# Altium footprint library SamacSys.PcbLib: 27 footprints (part 1 of 2)
Each footprint in its own frame and in the unit in brackets; x right, y up, seen from the top. Pads: shape width x height; smd on the part's side, far side on the other; paste and mask are expansions set on the pad; w line width, h text height; cw(c..) or ccw(c..) is an arc to the next point about the centre after c.
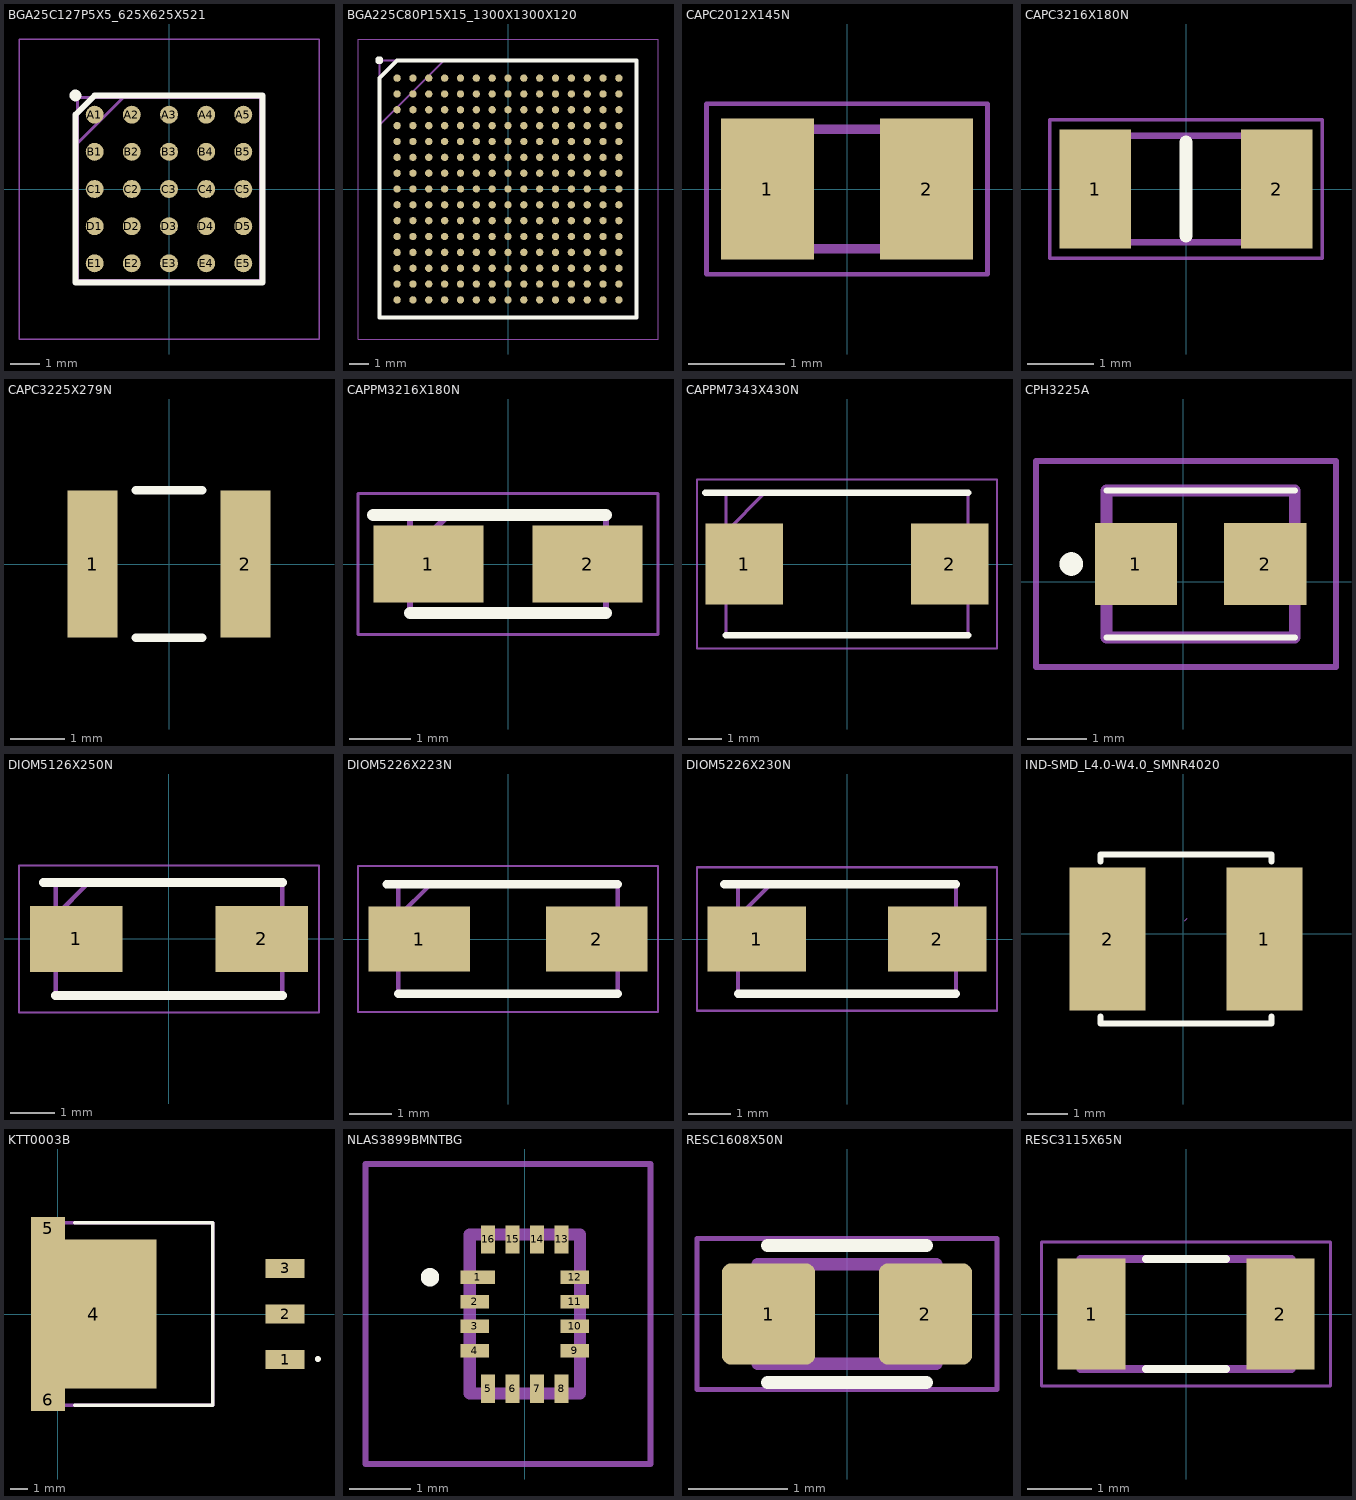
[diagram p0: the footprints below, top view; thin cyan lines are the x and y axes]

## BGA25C127P5X5_625X625X521 [mm]
pads (25):
  round 0.612 smd: A1(-2.54,2.54) A2(-1.27,2.54) A3(0,2.54) A4(1.27,2.54) A5(2.54,2.54) B1(-2.54,1.27) B2(-1.27,1.27) B3(0,1.27) B4(1.27,1.27) B5(2.54,1.27) C1(-2.54,0) C2(-1.27,0) C3(0,0) C4(1.27,0) C5(2.54,0) D1(-2.54,-1.27) D2(-1.27,-1.27) D3(0,-1.27) D4(1.27,-1.27) D5(2.54,-1.27) E1(-2.54,-2.54) E2(-1.27,-2.54) E3(0,-2.54) E4(1.27,-2.54) E5(2.54,-2.54)
Top Overlay:
  circle w0.2: c-3.196,3.196 r0.1
  lines w0.2: -3.196,-3.196 -3.196,2.54 -2.54,3.196 3.196,3.196 3.196,-3.196 -3.196,-3.196
Mechanical 13:
  lines w0.1: -3.125,1.562 -1.563,3.124 ; -3.125,-3.125 -3.125,3.125 3.125,3.125 3.125,-3.125 -3.125,-3.125
Mechanical 15:
  lines w0.05: -5.125,-5.125 -5.125,5.125 5.125,5.125 5.125,-5.125 -5.125,-5.125
3D body "LTM4624EY#PBF.stp": height 5.21, standoff 0, extent -3.125,-3.125 3.125,3.125

## BGA225C80P15X15_1300X1300X120 [mm]
pads (225):
  round 0.37 smd: A1(-5.6,5.6) A2(-4.8,5.6) A3(-4,5.6) A4(-3.2,5.6) A5(-2.4,5.6) A6(-1.6,5.6) A7(-0.8,5.6) A8(0,5.6) A9(0.8,5.6) A10(1.6,5.6) A11(2.4,5.6) A12(3.2,5.6) A13(4,5.6) A14(4.8,5.6) A15(5.6,5.6) B1(-5.6,4.8) B2(-4.8,4.8) B3(-4,4.8) B4(-3.2,4.8) B5(-2.4,4.8) B6(-1.6,4.8) B7(-0.8,4.8) B8(0,4.8) B9(0.8,4.8) B10(1.6,4.8) B11(2.4,4.8) B12(3.2,4.8) B13(4,4.8) B14(4.8,4.8) B15(5.6,4.8) C1(-5.6,4) C2(-4.8,4) C3(-4,4) C4(-3.2,4) C5(-2.4,4) C6(-1.6,4) C7(-0.8,4) C8(0,4) C9(0.8,4) C10(1.6,4) C11(2.4,4) C12(3.2,4) C13(4,4) C14(4.8,4) C15(5.6,4) D1(-5.6,3.2) D2(-4.8,3.2) D3(-4,3.2) D4(-3.2,3.2) D5(-2.4,3.2) D6(-1.6,3.2) D7(-0.8,3.2) D8(0,3.2) D9(0.8,3.2) D10(1.6,3.2) D11(2.4,3.2) D12(3.2,3.2) D13(4,3.2) D14(4.8,3.2) D15(5.6,3.2) E1(-5.6,2.4) E2(-4.8,2.4) E3(-4,2.4) E4(-3.2,2.4) E5(-2.4,2.4) E6(-1.6,2.4) E7(-0.8,2.4) E8(0,2.4) E9(0.8,2.4) E10(1.6,2.4) E11(2.4,2.4) E12(3.2,2.4) E13(4,2.4) E14(4.8,2.4) E15(5.6,2.4) F1(-5.6,1.6) F2(-4.8,1.6) F3(-4,1.6) F4(-3.2,1.6) F5(-2.4,1.6) F6(-1.6,1.6) F7(-0.8,1.6) F8(0,1.6) F9(0.8,1.6) F10(1.6,1.6) F11(2.4,1.6) F12(3.2,1.6) F13(4,1.6) F14(4.8,1.6) F15(5.6,1.6) G1(-5.6,0.8) G2(-4.8,0.8) G3(-4,0.8) G4(-3.2,0.8) G5(-2.4,0.8) G6(-1.6,0.8) G7(-0.8,0.8) G8(0,0.8) G9(0.8,0.8) G10(1.6,0.8) G11(2.4,0.8) G12(3.2,0.8) G13(4,0.8) G14(4.8,0.8) G15(5.6,0.8) H1(-5.6,0) H2(-4.8,0) H3(-4,0) H4(-3.2,0) H5(-2.4,0) H6(-1.6,0) H7(-0.8,0) H8(0,0) H9(0.8,0) H10(1.6,0) H11(2.4,0) H12(3.2,0) H13(4,0) H14(4.8,0) H15(5.6,0) J1(-5.6,-0.8) J2(-4.8,-0.8) J3(-4,-0.8) J4(-3.2,-0.8) J5(-2.4,-0.8) J6(-1.6,-0.8) J7(-0.8,-0.8) J8(0,-0.8) J9(0.8,-0.8) J10(1.6,-0.8) J11(2.4,-0.8) J12(3.2,-0.8) J13(4,-0.8) J14(4.8,-0.8) J15(5.6,-0.8) K1(-5.6,-1.6) K2(-4.8,-1.6) K3(-4,-1.6) K4(-3.2,-1.6) K5(-2.4,-1.6) K6(-1.6,-1.6) K7(-0.8,-1.6) K8(0,-1.6) K9(0.8,-1.6) K10(1.6,-1.6) K11(2.4,-1.6) K12(3.2,-1.6) K13(4,-1.6) K14(4.8,-1.6) K15(5.6,-1.6) L1(-5.6,-2.4) L2(-4.8,-2.4) L3(-4,-2.4) L4(-3.2,-2.4) L5(-2.4,-2.4) L6(-1.6,-2.4) L7(-0.8,-2.4) L8(0,-2.4) L9(0.8,-2.4) L10(1.6,-2.4) L11(2.4,-2.4) L12(3.2,-2.4) L13(4,-2.4) L14(4.8,-2.4) L15(5.6,-2.4) M1(-5.6,-3.2) M2(-4.8,-3.2) M3(-4,-3.2) M4(-3.2,-3.2) M5(-2.4,-3.2) M6(-1.6,-3.2) M7(-0.8,-3.2) M8(0,-3.2) M9(0.8,-3.2) M10(1.6,-3.2) M11(2.4,-3.2) M12(3.2,-3.2) M13(4,-3.2) M14(4.8,-3.2) M15(5.6,-3.2) N1(-5.6,-4) N2(-4.8,-4) N3(-4,-4) N4(-3.2,-4) N5(-2.4,-4) N6(-1.6,-4) N7(-0.8,-4) N8(0,-4) N9(0.8,-4) N10(1.6,-4) N11(2.4,-4) N12(3.2,-4) N13(4,-4) N14(4.8,-4) N15(5.6,-4) P1(-5.6,-4.8) P2(-4.8,-4.8) P3(-4,-4.8) P4(-3.2,-4.8) P5(-2.4,-4.8) P6(-1.6,-4.8) P7(-0.8,-4.8) P8(0,-4.8) P9(0.8,-4.8) P10(1.6,-4.8) P11(2.4,-4.8) P12(3.2,-4.8) P13(4,-4.8) P14(4.8,-4.8) P15(5.6,-4.8) R1(-5.6,-5.6) R2(-4.8,-5.6) R3(-4,-5.6) R4(-3.2,-5.6) R5(-2.4,-5.6) R6(-1.6,-5.6) R7(-0.8,-5.6) R8(0,-5.6) R9(0.8,-5.6) R10(1.6,-5.6) R11(2.4,-5.6) R12(3.2,-5.6) R13(4,-5.6) R14(4.8,-5.6) R15(5.6,-5.6)
Top Overlay:
  circle w0.2: c-6.5,6.5 r0.1
  lines w0.2: -6.5,-6.5 -6.5,5.6 -5.6,6.5 6.5,6.5 6.5,-6.5 -6.5,-6.5
Mechanical 13:
  lines w0.1: -6.5,3.212 -3.212,6.5 ; -6.5,-6.5 -6.5,6.5 6.5,6.5 6.5,-6.5 -6.5,-6.5
Mechanical 15:
  lines w0.05: -7.575,-7.575 -7.575,7.575 7.575,7.575 7.575,-7.575 -7.575,-7.575
3D body "STM32H7A3LIH6Q.stp": height 1.2, standoff 0, extent -6.5,-6.5 6.5,6.5

## CAPC2012X145N [mm]
pads (2):
  rect 0.97x1.47 smd: 1(-0.83,0) 2(0.83,0)
Mechanical 13:
  lines w0.1: -1,-0.625 -1,0.625 1,0.625 1,-0.625 -1,-0.625
Mechanical 15:
  lines w0.05: -1.465,-0.89 -1.465,0.89 1.465,0.89 1.465,-0.89 -1.465,-0.89
3D body "GRM21BR60J107ME15L.stp": height 1.45, standoff 0, extent -1,-0.625 1,0.625

## CAPC3216X180N [mm]
pads (2):
  rect 1.07x1.78 smd: 1(-1.36,0) 2(1.36,0)
Top Overlay:
  lines w0.2: 0,-0.7 0,0.7
Mechanical 13:
  lines w0.1: -1.6,-0.8 1.6,-0.8 1.6,0.8 -1.6,0.8 -1.6,-0.8
Mechanical 15:
  lines w0.05: -2.045,-1.04 2.045,-1.04 2.045,1.04 -2.045,1.04 -2.045,-1.04
3D body "TMK316BJ106MLHT.stp": height 1.8, standoff 0, extent -1.6,-0.8 1.6,0.8

## CAPC3225X279N [mil]
pads (2):
  rect 36x106 smd: 1(-55,0) 2(55,0)
Top Overlay:
  lines w6: -24,-53 24,-53 ; -24,53 24,53

## CAPPM3216X180N [mm]
pads (2):
  rect 1.8x1.25 smd: 1(-1.3,0) 2(1.3,0)
Top Overlay:
  lines w0.2: -2.2,0.8 1.6,0.8 ; -1.6,-0.8 1.6,-0.8
Mechanical 13:
  lines w0.1: -1.6,0.175 -0.975,0.8 ; -1.6,-0.8 -1.6,0.8 1.6,0.8 1.6,-0.8 -1.6,-0.8
Mechanical 15:
  lines w0.05: -2.45,-1.15 -2.45,1.15 2.45,1.15 2.45,-1.15 -2.45,-1.15
3D body "293D104X0035A2TE3.stp": height 1.83, standoff 0, extent -1.704,-0.949 1.7,0.949

## CAPPM7343X430N [mm]
pads (2):
  rect 2.35x2.45 smd: 1(-3.1,0) 2(3.1,0)
Top Overlay:
  lines w0.2: -4.275,2.15 3.65,2.15 ; -3.65,-2.15 3.65,-2.15
Mechanical 13:
  lines w0.1: -3.65,0.975 -2.475,2.15 ; -3.65,-2.15 -3.65,2.15 3.65,2.15 3.65,-2.15 -3.65,-2.15
Mechanical 15:
  lines w0.05: -4.525,-2.55 -4.525,2.55 4.525,2.55 4.525,-2.55 -4.525,-2.55
3D body "293D227X9016E2TE3.stp": height 4.12, standoff 0, extent -3.59,-2.349 3.598,2.345

## CPH3225A [mm]
pads (2):
  rect 1.4x1.4 smd: 1(-0.8,0.3) 2(1.4,0.3)
Top Overlay:
  lines w0.1: -1.3,-0.95 1.9,-0.95 ; -1.3,1.55 1.9,1.55
  lines w0.2: -1.9,0.2 cw(c-1.9,0.3) -1.9,0.4 cw(c-1.9,0.3) -1.9,0.2
Mechanical 13:
  lines w0.2: -1.3,-0.95 -1.3,1.55 1.9,1.55 1.9,-0.95 -1.3,-0.95
Mechanical 15:
  lines w0.1: -2.5,-1.45 -2.5,2.05 2.6,2.05 2.6,-1.45 -2.5,-1.45
3D body "CPH3225A.stp": height 1.1, standoff 0, extent -1.36,-0.95 1.96,1.55

## DIOM5126X250N [mm]
pads (2):
  rect 2.1x1.5 smd: 1(-2.1,0) 2(2.1,0)
Top Overlay:
  lines w0.2: -2.85,1.28 2.57,1.28 ; -2.57,-1.28 2.57,-1.28
Mechanical 13:
  lines w0.1: -2.57,0.53 -1.82,1.28 ; -2.57,-1.28 -2.57,1.28 2.57,1.28 2.57,-1.28 -2.57,-1.28
Mechanical 15:
  lines w0.05: -3.4,-1.665 -3.4,1.665 3.4,1.665 3.4,-1.665 -3.4,-1.665
3D body "SS24.stp": height 2.5, standoff 0, extent -2.57,-1.28 2.57,1.28

## DIOM5226X223N [mm]
pads (2):
  rect 2.4x1.55 smd: 1(-2.1,0) 2(2.1,0)
Top Overlay:
  lines w0.2: -2.875,1.3 2.6,1.3 ; -2.6,-1.3 2.6,-1.3
Mechanical 13:
  lines w0.1: -2.6,0.525 -1.825,1.3 ; -2.6,-1.3 2.6,-1.3 2.6,1.3 -2.6,1.3 -2.6,-1.3
Mechanical 15:
  lines w0.05: -3.55,-1.725 3.55,-1.725 3.55,1.725 -3.55,1.725 -3.55,-1.725
3D body "STPS1L30A.stp": height 2.23, standoff 0, extent -2.6,-1.3 2.6,1.3

## DIOM5226X230N [mm]
pads (2):
  rect 2.35x1.55 smd: 1(-2.15,0) 2(2.15,0)
Top Overlay:
  lines w0.2: -2.925,1.302 2.598,1.302 ; -2.598,-1.302 2.598,-1.302
Mechanical 13:
  lines w0.1: -2.598,0.528 -1.822,1.302 ; -2.598,-1.302 2.598,-1.302 2.598,1.302 -2.598,1.302 -2.598,-1.302
Mechanical 15:
  lines w0.05: -3.575,-1.71 3.575,-1.71 3.575,1.71 -3.575,1.71 -3.575,-1.71
3D body "B130-13-F.stp": height 2.3, standoff 0, extent -2.598,-1.302 2.598,1.302

## IND-SMD_L4.0-W4.0_SMNR4020 [mm]
pads (2):
  rect 1.874x3.52 smd: 1(1.999,-0.134) 2(-1.857,-0.134)
Top Overlay:
  lines w0.152: -2.03,-2.046 -2.03,-2.21 2.172,-2.21 2.172,-2.046 ; -2.03,1.779 -2.03,1.943 2.172,1.943 2.172,1.779
Mechanical 15:
  lines w0.003: 0.046,0.321 0.096,0.371

## KTT0003B [mm]
pads (6):
  rect 2.16x1.07 smd: 1(12.67,-2.54) 2(12.67,0) 3(12.67,2.54)
  rect 7x8.33 smd: 4(2,0)
  rect 1.91x1.235 smd: 5(-0.545,4.782) 6(-0.545,-4.782)
Top Overlay:
  circle w0.2: c14.497,-2.51 r0.065
  lines w0.2: 0.94,-5.08 8.64,-5.08 8.64,5.08 0.94,5.08
Mechanical 13:
  lines w0.2: 0,-5.08 0,5.08 8.64,5.08 8.64,-5.08 0,-5.08
3D body "LM7805SX_NOPB.stp": height 4.54, standoff 0, extent -1.517,-5.08 13.722,5.08

## NLAS3899BMNTBG [mm]
pads (16):
  rect 0.562x0.225 smd: 1(-0.769,0.6)
  rect 0.463x0.225 smd: 2(-0.818,0.2) 3(-0.818,-0.2) 4(-0.818,-0.6) 9(0.818,-0.6) 10(0.818,-0.2) 11(0.818,0.2) 12(0.818,0.6)
  rect 0.225x0.463 smd: 5(-0.6,-1.219) 6(-0.2,-1.219) 7(0.2,-1.219) 8(0.6,-1.219) 13(0.6,1.218) 14(0.2,1.218) 15(-0.2,1.218) 16(-0.6,1.218)
Top Overlay:
  lines w0.2: -1.6,0.6 ccw(c-1.55,0.6) -1.5,0.6 ; -1.6,0.6 cw(c-1.55,0.6) -1.5,0.6 ; -1.6,0.6 ccw(c-1.55,0.6) -1.5,0.6
Mechanical 13:
  lines w0.2: -0.9,-1.3 -0.9,1.3 0.9,1.3 0.9,-1.3 -0.9,-1.3
Mechanical 15:
  lines w0.1: -2.6,-2.45 -2.6,2.45 2.05,2.45 2.05,-2.45 -2.6,-2.45
3D body "NLAS3899BMNTBG.stp": height 0.9, standoff 0, extent -0.9,-1.3 0.9,1.3

## RESC1608X50N [mm]
pads (2):
  rrect20% 0.94x1.02 smd: 1(-0.79,0) 2(0.79,0)
Top Overlay:
  lines w0.127: -0.8,-0.69 0.8,-0.69 ; -0.8,0.69 0.8,0.69
Mechanical 13:
  lines w0.127: -0.9,-0.5 -0.9,0.5 0.9,0.5 0.9,-0.5 -0.9,-0.5
Mechanical 15:
  lines w0.05: -1.51,-0.76 -1.51,0.76 1.51,0.76 1.51,-0.76 -1.51,-0.76
3D body "0603_RES.stp": height 0.43, standoff -0.03, extent -0.8,-0.4 0.8,0.4

## RESC3115X65N [mm]
pads (2):
  rect 1.05x1.72 smd: 1(-1.46,0) 2(1.46,0)
Top Overlay:
  lines w0.127: -0.62,-0.85 0.62,-0.85 ; -0.62,0.85 0.62,0.85
Mechanical 13:
  lines w0.127: -1.63,-0.85 1.63,-0.85 1.63,0.85 -1.63,0.85 -1.63,-0.85
Mechanical 15:
  lines w0.05: -2.235,-1.112 2.235,-1.112 2.235,1.112 -2.235,1.112 -2.235,-1.112
3D body "CRGP1206F120K.STEP": height 0.65, standoff 0, extent -1.55,-0.775 1.55,0.775